# Altium integrated library TS-1187A-B-A-B.IntLib: 1 symbol
Pins are listed as number, name and electrical type; pins without a type are passive.

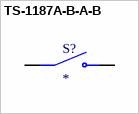
[diagram p0: symbol TS-1187A-B-A-B]

## TS-1187A-B-A-B
designator S?
SPST 50mA @ 12VDC Top Actuated Round Button 160gf SMD Tactile Switches RoHS; MP: TS-1187A-B-A-B; Value: *; Price: None; Package: None; Availability: Unavailable
footprint SW_TS-1187A-B-A-B
pins: A COM, B COM, C NO, D NO